# Altium schematic symbol library FDN304P.SchLib: 1 symbol
Pins are listed as number, name and electrical type; pins without a type are passive.

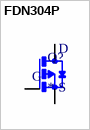
[diagram p0: symbol FDN304P]

## FDN304P
designator Q?
P-Channel 20 V 2.4A (Ta) 500mW (Ta) Surface Mount SOT-23-3; MF: onsemi; MP: FDN304P; SnapEDA_Link: https://www.snapeda.com/parts/FDN304P/Onsemi/view-part/?ref=snap; Package: SOT-23-3 ON Semiconductor; Value: *; Check_prices: https://www.snapeda.com/parts/FDN304P/Onsemi/view-part/?ref=eda
footprint SSOT-3
pins: 1 G, 2 S, 3 D